# Altium footprint library UFQFPN0.50P3.0X3.0X0.6-20EP.PcbLib: 3 footprints
Each footprint in its own frame and in the unit in brackets; x right, y up, seen from the top. Pads: shape width x height; smd on the part's side, far side on the other; paste and mask are expansions set on the pad; w line width, h text height; cw(c..) or ccw(c..) is an arc to the next point about the centre after c.
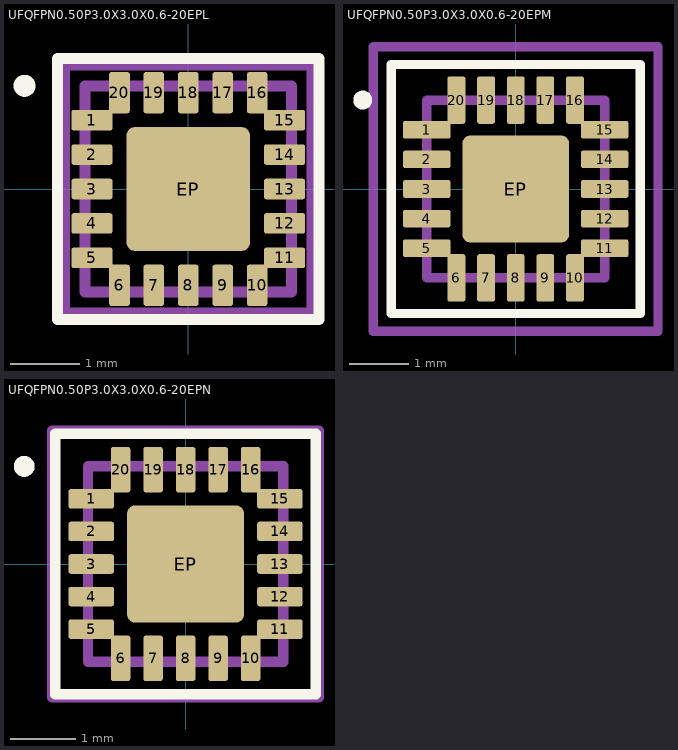
[diagram p0: the footprints below, top view; thin cyan lines are the x and y axes]

## UFQFPN0.50P3.0X3.0X0.6-20EPL [mm] "UFQFPN 20 3x3x0.6 mm"
height 0.6
pads (21):
  rrect25% 0.6x0.3 smd: 1(-1.4,1) 2(-1.4,0.5) 3(-1.4,0) 4(-1.4,-0.5) 5(-1.4,-1) 11(1.4,-1) 12(1.4,-0.5) 13(1.4,0) 14(1.4,0.5) 15(1.4,1)
  rrect25% 0.3x0.6 smd: 6(-1,-1.4) 7(-0.5,-1.4) 8(0,-1.4) 9(0.5,-1.4) 10(1,-1.4) 16(1,1.4) 17(0.5,1.4) 18(0,1.4) 19(-0.5,1.4) 20(-1,1.4)
  rrect14% 1.8x1.8 smd: EP(0,0)
Top Overlay:
  circle w0.16: c-2.38,1.5 r0.08
  lines w0.16: -1.9,-1.9 1.9,-1.9 1.9,1.9 -1.9,1.9 -1.9,-1.9
Top Component Center:
  lines w0.1: -0.375,0 0.375,0 ; 0,-0.375 0,0.375
Top Courtyard:
  lines w0.16: -1.8,-1.8 1.8,-1.8 1.8,1.8 -1.8,1.8 -1.8,-1.8
Top Assembly:
  lines w0.16: -1.5,-1.5 1.5,-1.5 1.5,1.5 -1.5,1.5 -1.5,-1.5
3D body "UFQFPN0.50P3.0X3.0X0.6-20EPL.STEP": height 1, standoff 0

## UFQFPN0.50P3.0X3.0X0.6-20EPM [mm] "UFQFPN 20 3x3x0.6 mm"
height 0.6
pads (21):
  rrect25% 0.8x0.3 smd: 1(-1.5,1) 2(-1.5,0.5) 3(-1.5,0) 4(-1.5,-0.5) 5(-1.5,-1) 11(1.5,-1) 12(1.5,-0.5) 13(1.5,0) 14(1.5,0.5) 15(1.5,1)
  rrect25% 0.3x0.8 smd: 6(-1,-1.5) 7(-0.5,-1.5) 8(0,-1.5) 9(0.5,-1.5) 10(1,-1.5) 16(1,1.5) 17(0.5,1.5) 18(0,1.5) 19(-0.5,1.5) 20(-1,1.5)
  rrect14% 1.8x1.8 smd: EP(0,0)
Top Overlay:
  circle w0.16: c-2.58,1.5 r0.08
  lines w0.16: -2.1,-2.1 2.1,-2.1 2.1,2.1 -2.1,2.1 -2.1,-2.1
Top Component Center:
  lines w0.1: -0.375,0 0.375,0 ; 0,-0.375 0,0.375
Top Courtyard:
  lines w0.16: -2.4,-2.4 2.4,-2.4 2.4,2.4 -2.4,2.4 -2.4,-2.4
Top Assembly:
  lines w0.16: -1.5,-1.5 1.5,-1.5 1.5,1.5 -1.5,1.5 -1.5,-1.5
3D body "UFQFPN0.50P3.0X3.0X0.6-20EPM.STEP": height 1, standoff 0

## UFQFPN0.50P3.0X3.0X0.6-20EPN [mm] "UFQFPN 20 3x3x0.6 mm"
height 0.6
pads (21):
  rrect25% 0.7x0.3 smd: 1(-1.45,1) 2(-1.45,0.5) 3(-1.45,0) 4(-1.45,-0.5) 5(-1.45,-1) 11(1.45,-1) 12(1.45,-0.5) 13(1.45,0) 14(1.45,0.5) 15(1.45,1)
  rrect25% 0.3x0.7 smd: 6(-1,-1.45) 7(-0.5,-1.45) 8(0,-1.45) 9(0.5,-1.45) 10(1,-1.45) 16(1,1.45) 17(0.5,1.45) 18(0,1.45) 19(-0.5,1.45) 20(-1,1.45)
  rrect14% 1.8x1.8 smd: EP(0,0)
Top Overlay:
  circle w0.16: c-2.48,1.5 r0.08
  lines w0.16: -2,-2 2,-2 2,2 -2,2 -2,-2
Top Component Center:
  lines w0.1: -0.375,0 0.375,0 ; 0,-0.375 0,0.375
Top Courtyard:
  lines w0.16: -2.05,-2.05 2.05,-2.05 2.05,2.05 -2.05,2.05 -2.05,-2.05
Top Assembly:
  lines w0.16: -1.5,-1.5 1.5,-1.5 1.5,1.5 -1.5,1.5 -1.5,-1.5
3D body "UFQFPN0.50P3.0X3.0X0.6-20EPN.STEP": height 1, standoff 0